# Altium footprint library DA2034-AL.PcbLib: 1 footprints
Each footprint in its own frame and in the unit in brackets; x right, y up, seen from the top. Pads: shape width x height; smd on the part's side, far side on the other; paste and mask are expansions set on the pad; w line width, h text height; cw(c..) or ccw(c..) is an arc to the next point about the centre after c.
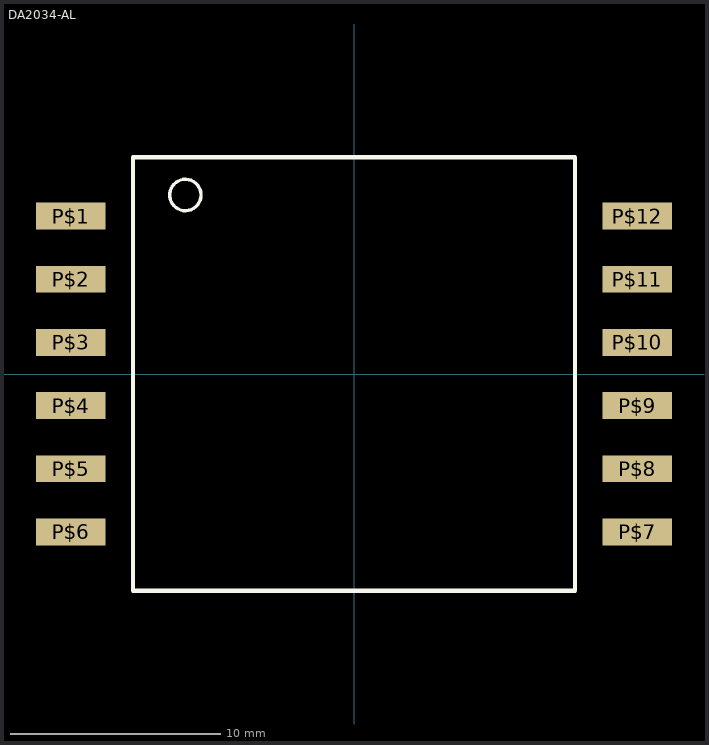
[diagram p0: the footprint, top view; thin cyan lines are the x and y axes]

## DA2034-AL [mm]
pads (12):
  rect 3.3x1.27 smd: P$1(-13.46,7.5) P$2(-13.46,4.5) P$3(-13.46,1.5) P$4(-13.46,-1.5) P$5(-13.46,-4.5) P$6(-13.46,-7.5) P$7(13.46,-7.5) P$8(13.46,-4.5) P$9(13.46,-1.5) P$10(13.46,1.5) P$11(13.46,4.5) P$12(13.46,7.5)
Top Overlay:
  circle w0.16: c-8.01,8.5 r0.746
  lines w0.2: -10.5,-10.29 10.5,-10.29 10.5,10.29 -10.5,10.29 -10.5,-10.29